# Altium footprint library International Rectifier Footprints.PcbLib: 101 footprints (part 3 of 7)
Each footprint in its own frame and in the unit in brackets; x right, y up, seen from the top. Pads: shape width x height; smd on the part's side, far side on the other; paste and mask are expansions set on the pad; w line width, h text height; cw(c..) or ccw(c..) is an arc to the next point about the centre after c.
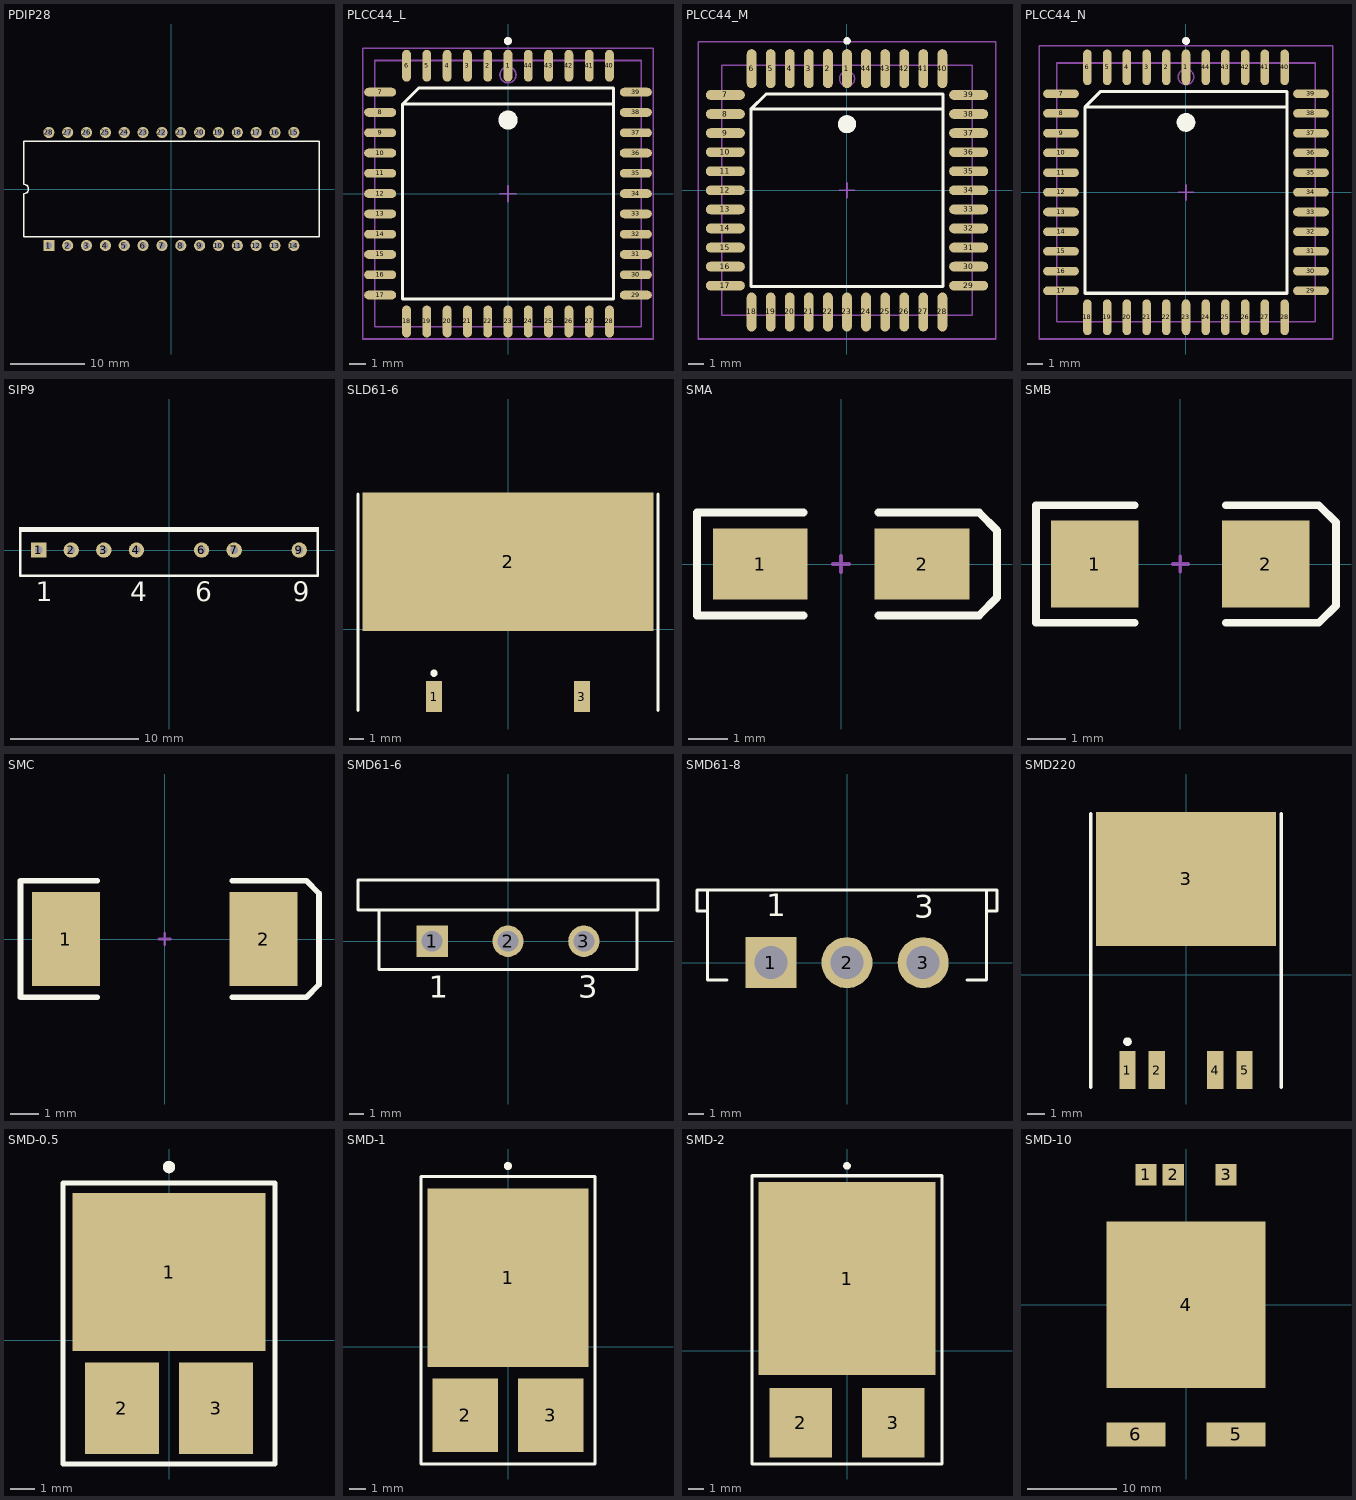
[diagram p2: the footprints below, top view; thin cyan lines are the x and y axes]

## PDIP28 [mm] "DIP; 28 Leads; Row Spacing 15.24 mm; Pitch 2.54 mm"
height 6.35
pads (28):
  rect 1.5x1.5 hole 0.9: 1(-16.51,-7.62)
  round 1.5 hole 0.9: 2(-13.97,-7.62) 3(-11.43,-7.62) 4(-8.89,-7.62) 5(-6.35,-7.62) 6(-3.81,-7.62) 7(-1.27,-7.62) 8(1.27,-7.62) 9(3.81,-7.62) 10(6.35,-7.62) 11(8.89,-7.62) 12(11.43,-7.62) 13(13.97,-7.62) 14(16.51,-7.62) 15(16.51,7.62) 16(13.97,7.62) 17(11.43,7.62) 18(8.89,7.62) 19(6.35,7.62) 20(3.81,7.62) 21(1.27,7.62) 22(-1.27,7.62) 23(-3.81,7.62) 24(-6.35,7.62) 25(-8.89,7.62) 26(-11.43,7.62) 27(-13.97,7.62) 28(-16.51,7.62)
Top Overlay:
  lines w0.2: -19.9,-6.45 -19.9,-0.635 ccw(c-19.9,0) -19.9,0.635 -19.9,6.45 19.9,6.45 19.9,-6.45 -19.9,-6.45

## PLCC44_L [mm] "44-Pin Leaded Chip Carrier 1.27 mm Pitch, IPC High Density"
height 4.57
pads (44):
  oval 0.55x2 smd: 1(0,8) 2(-1.27,8) 3(-2.54,8) 4(-3.81,8) 5(-5.08,8) 6(-6.35,8) 18(-6.35,-8) 19(-5.08,-8) 20(-3.81,-8) 21(-2.54,-8) 22(-1.27,-8) 23(0,-8) 24(1.27,-8) 25(2.54,-8) 26(3.81,-8) 27(5.08,-8) 28(6.35,-8) 40(6.35,8) 41(5.08,8) 42(3.81,8) 43(2.54,8) 44(1.27,8)
  oval 2x0.55 smd: 7(-8,6.35) 8(-8,5.08) 9(-8,3.81) 10(-8,2.54) 11(-8,1.27) 12(-8,0) 13(-8,-1.27) 14(-8,-2.54) 15(-8,-3.81) 16(-8,-5.08) 17(-8,-6.35) 29(8,-6.35) 30(8,-5.08) 31(8,-3.81) 32(8,-2.54) 33(8,-1.27) 34(8,0) 35(8,1.27) 36(8,2.54) 37(8,3.81) 38(8,5.08) 39(8,6.35)
Top Overlay:
  circle w0.25: c0,9.55 r0.125
  circle w0.6: c0,4.6 r0.3
  lines w0.2: 6.6,5.6 -6.6,5.6 ; -6.6,5.6 -5.6,6.6 6.6,6.6 6.6,-6.6 -6.6,-6.6 -6.6,5.6
Mechanical 13:
  circle w0.1: c0,7.43 r0.5
  lines w0.1: -8.33,-8.33 -8.33,8.33 8.33,8.33 8.33,-8.33 -8.33,-8.33
Mechanical 15:
  lines w0.1: -0.5,0 0.5,0 ; 0,-0.5 0,0.5 ; -9.1,-9.1 -9.1,9.1 9.1,9.1 9.1,-9.1 -9.1,-9.1
3D body: height 4.57, standoff 0, extent -8.33,-8.33 8.33,8.33

## PLCC44_M [mm] "44-Pin Leaded Chip Carrier 1.27 mm Pitch, IPC Low Density"
height 4.57
pads (44):
  oval 0.65x2.6 smd: 1(0,8.1) 2(-1.27,8.1) 3(-2.54,8.1) 4(-3.81,8.1) 5(-5.08,8.1) 6(-6.35,8.1) 18(-6.35,-8.1) 19(-5.08,-8.1) 20(-3.81,-8.1) 21(-2.54,-8.1) 22(-1.27,-8.1) 23(0,-8.1) 24(1.27,-8.1) 25(2.54,-8.1) 26(3.81,-8.1) 27(5.08,-8.1) 28(6.35,-8.1) 40(6.35,8.1) 41(5.08,8.1) 42(3.81,8.1) 43(2.54,8.1) 44(1.27,8.1)
  oval 2.6x0.65 smd: 7(-8.1,6.35) 8(-8.1,5.08) 9(-8.1,3.81) 10(-8.1,2.54) 11(-8.1,1.27) 12(-8.1,0) 13(-8.1,-1.27) 14(-8.1,-2.54) 15(-8.1,-3.81) 16(-8.1,-5.08) 17(-8.1,-6.35) 29(8.1,-6.35) 30(8.1,-5.08) 31(8.1,-3.81) 32(8.1,-2.54) 33(8.1,-1.27) 34(8.1,0) 35(8.1,1.27) 36(8.1,2.54) 37(8.1,3.81) 38(8.1,5.08) 39(8.1,6.35)
Top Overlay:
  circle w0.25: c0,9.95 r0.125
  circle w0.6: c0,4.4 r0.3
  lines w0.2: 6.4,5.4 -6.4,5.4 ; -6.4,5.4 -5.4,6.4 6.4,6.4 6.4,-6.4 -6.4,-6.4 -6.4,5.4
Mechanical 13:
  circle w0.1: c0,7.43 r0.5
  lines w0.1: -8.33,-8.33 -8.33,8.33 8.33,8.33 8.33,-8.33 -8.33,-8.33
Mechanical 15:
  lines w0.1: -0.5,0 0.5,0 ; 0,-0.5 0,0.5 ; -9.9,-9.9 -9.9,9.9 9.9,9.9 9.9,-9.9 -9.9,-9.9
3D body: height 4.57, standoff 0, extent -8.33,-8.33 8.33,8.33

## PLCC44_N [mm] "44-Pin Leaded Chip Carrier 1.27 mm Pitch, IPC Medium Density"
height 4.57
pads (44):
  oval 0.55x2.3 smd: 1(0,8.05) 2(-1.27,8.05) 3(-2.54,8.05) 4(-3.81,8.05) 5(-5.08,8.05) 6(-6.35,8.05) 18(-6.35,-8.05) 19(-5.08,-8.05) 20(-3.81,-8.05) 21(-2.54,-8.05) 22(-1.27,-8.05) 23(0,-8.05) 24(1.27,-8.05) 25(2.54,-8.05) 26(3.81,-8.05) 27(5.08,-8.05) 28(6.35,-8.05) 40(6.35,8.05) 41(5.08,8.05) 42(3.81,8.05) 43(2.54,8.05) 44(1.27,8.05)
  oval 2.3x0.55 smd: 7(-8.05,6.35) 8(-8.05,5.08) 9(-8.05,3.81) 10(-8.05,2.54) 11(-8.05,1.27) 12(-8.05,0) 13(-8.05,-1.27) 14(-8.05,-2.54) 15(-8.05,-3.81) 16(-8.05,-5.08) 17(-8.05,-6.35) 29(8.05,-6.35) 30(8.05,-5.08) 31(8.05,-3.81) 32(8.05,-2.54) 33(8.05,-1.27) 34(8.05,0) 35(8.05,1.27) 36(8.05,2.54) 37(8.05,3.81) 38(8.05,5.08) 39(8.05,6.35)
Top Overlay:
  circle w0.25: c0,9.75 r0.125
  circle w0.6: c0,4.5 r0.3
  lines w0.2: 6.5,5.5 -6.5,5.5 ; -6.5,5.5 -5.5,6.5 6.5,6.5 6.5,-6.5 -6.5,-6.5 -6.5,5.5
Mechanical 13:
  circle w0.1: c0,7.43 r0.5
  lines w0.1: -8.33,-8.33 -8.33,8.33 8.33,8.33 8.33,-8.33 -8.33,-8.33
Mechanical 15:
  lines w0.1: -0.5,0 0.5,0 ; 0,-0.5 0,0.5 ; -9.45,-9.45 -9.45,9.45 9.45,9.45 9.45,-9.45 -9.45,-9.45
3D body: height 4.57, standoff 0, extent -8.33,-8.33 8.33,8.33

## SIP9 [mm] "SIP; 9 Leads (2 Absent); Body 22.9 x 3.4 mm (LxW typ); Pitch 2.54 mm"
height 9.9
pads (7):
  rect 1.2x1.2 hole 0.6: 1(-10.16,0)
  round 1.2 hole 0.6: 2(-7.62,0) 3(-5.08,0) 4(-2.54,0) 6(2.54,0) 7(5.08,0) 9(10.16,0)
Top Overlay:
  rectangle: -11.7,1.4 11.7,1.8
  lines w0.2: -11.6,1.7 -11.6,-2 11.6,-2 11.6,1.7
  text "9" at 9.66,-3.975 h1.5
  text "1" at -10.41,-3.975 h1.5
  text "6" at 2.04,-3.975 h1.5
  text "4" at -3.04,-3.975 h1.5

## SLD61-6 [mm] "Single-Ended SM Package; 3 Leads (1 Cropped); Body (inc. leads) 14.3 x 20 mm (LxW max)"
height 6
pads (3):
  rect 1.1x2.1 smd: 1(-5.08,-4.625) 3(5.08,-4.625)
  rect 20x9.5 smd: 2(0,4.625)
Top Overlay:
  circle w0.25: c-5.08,-3.025 r0.125
  lines w0.2: -10.3,-5.575 -10.3,9.275 ; 10.3,-5.575 10.3,9.275

## SMA [mm] "DO-214-AC/SMA; 2 C-Bend Leads; Body 5 x 2.7 mm, inc. leads (LxW)"
height 2.44
pads (2):
  rect 2.4x1.8 smd: 1(-2.05,0) 2(2.05,0)
Top Overlay:
  lines w0.2: -0.95,-1.3 -3.65,-1.3 -3.65,1.3 -0.95,1.3 ; 0.95,-1.3 3.5,-1.3 3.95,-0.85 3.95,0.85 3.5,1.3 0.95,1.3
Mechanical 1:
  lines w0.1: -0.2,0 0.2,0 ; 0,-0.2 0,0.2

## SMB [mm] "DO-214-AA/SMB; 2 C-Bend Leads; Body 5.3 x 3.6 mm, inc. leads (LxW)"
height 2.54
pads (2):
  rect 2.3x2.3 smd: 1(-2.25,0) 2(2.25,0)
Top Overlay:
  lines w0.2: -1.2,-1.55 -3.8,-1.55 -3.8,1.55 -1.2,1.55 ; 1.2,-1.55 3.65,-1.55 4.1,-1.1 4.1,1.1 3.65,1.55 1.2,1.55
Mechanical 1:
  lines w0.1: -0.2,0 0.2,0 ; 0,-0.2 0,0.2

## SMC [mm] "DO-214-AB/SMC; 2 C-Bend Leads; Body 7.9 x 5.9 mm, inc. leads (LxW)"
height 2.57
pads (2):
  rect 2.4x3.3 smd: 1(-3.475,0) 2(3.475,0)
Top Overlay:
  lines w0.2: -2.375,-2.05 -5.075,-2.05 -5.075,2.05 -2.375,2.05 ; 2.375,-2.05 4.975,-2.05 5.425,-1.6 5.425,1.6 4.975,2.055 ; 2.375,2.05 4.975,2.05
Mechanical 1:
  lines w0.1: -0.2,0 0.2,0 ; 0,-0.2 0,0.2

## SMD61-6 [mm] "Rectangular Flange Mount, Thru-Hole; 3 Leads; Pitch 5.08 mm"
height 8.9
pads (3):
  rect 2.1x2.1 hole 1.4: 1(-5.08,0)
  round 2.1 hole 1.4: 2(0,0) 3(5.08,0)
Top Overlay:
  lines w0.2: -8.65,2.1 -8.65,-1.9 8.65,-1.9 8.65,2.1 ; -10.05,2.1 -10.05,4.1 10.05,4.1 10.05,2.1 -10.05,2.1
  text "3" at 4.7,-3.8 h1.5
  text "1" at -5.3,-3.8 h1.5

## SMD61-8 [mm] "Rectangular Flange Mount, Thru-Hole; 3 Leads; Pitch 5.08 mm"
height 10.8
pads (3):
  rect 3.4x3.4 hole 2.2: 1(-5.08,0)
  round 3.4 hole 2.2: 2(0,0) 3(5.08,0)
Top Overlay:
  lines w0.2: -9.3,3.45 -10,3.45 -10,4.85 10,4.85 10,3.45 9.3,3.45 ; -9.3,4.85 -9.3,-1.15 -8,-1.15 ; 8,-1.15 9.3,-1.15 9.3,4.85
  text "3" at 4.5,3 h1.5
  text "1" at -5.4,3.1 h1.5

## SMD220 [mm] "D2-PAK; 5 Leads (1 Cropped); Body 15.3 (inc. leads) x 10.4 mm (LxW max)"
height 4.55
pads (5):
  rect 0.95x2.2 smd: 1(-3.4,-5.55) 2(-1.7,-5.55) 4(1.7,-5.55) 5(3.4,-5.55)
  rect 10.45x7.8 smd: 3(0,5.55)
Top Overlay:
  circle w0.25: c-3.4,-3.9 r0.125
  lines w0.2: -5.525,-6.55 -5.525,9.35 ; 5.525,-6.55 5.525,9.35

## SMD-0.5 [mm] "SM; 3 Leadless Terminals; Body 10.28 x 7.64 x 3.06 mm (LxWxH)"
height 3.06
pads (3):
  rect 7.8x6.4 smd: 1(0,2.76)
  rect 3x3.7 smd: 2(-1.905,-2.76) 3(1.905,-2.76)
Top Overlay:
  circle w0.25: c0,7.01 r0.125
  lines w0.2: -4.3,-5.01 -4.3,6.36 4.3,6.36 4.3,-5.01 -4.3,-5.01

## SMD-1 [mm] "SM; 3 Leadless Terminals; Body 16 x 11.55 x 3.58 mm (LxWxH)"
height 3.58
pads (3):
  rect 10.1x11.2 smd: 1(0,4.305)
  rect 4.1x4.6 smd: 2(-2.667,-4.305) 3(2.667,-4.305)
Top Overlay:
  circle w0.25: c0,11.3 r0.125
  lines w0.2: -5.45,-7.35 -5.45,10.65 5.45,10.65 5.45,-7.35 -5.45,-7.35

## SMD-2 [mm] "SM; 3 Leadless Terminals; Body 17.65 x 13.46 x 3.58 mm (LxWxH)"
height 3.58
pads (3):
  rect 11.7x12.7 smd: 1(0,4.75)
  rect 4.1x4.6 smd: 2(-3.048,-4.75) 3(3.048,-4.75)
Top Overlay:
  circle w0.25: c0,12.175 r0.125
  lines w0.2: -6.25,-7.475 6.25,-7.475 6.25,11.525 -6.25,11.525 -6.25,-7.475

## SMD-10 [mm] "SMD-10 Package; 6 Terminals; Body 29 x 14.2 x 4.27 mm (LxWxH)"
height 4.27
pads (6):
  rect 2.4x2.4 smd: 1(-4.5,14.6) 2(-1.45,14.6) 3(4.5,14.6)
  rect 17.9x18.75 smd: 4(0,-0.025)
  rect 6.65x2.7 smd: 5(5.625,-14.6) 6(-5.625,-14.6)